# Altium footprint library 通讯系列IC.PcbLib: 17 footprints (part 1 of 2)
Each footprint in its own frame and in the unit in brackets; x right, y up, seen from the top. Pads: shape width x height; smd on the part's side, far side on the other; paste and mask are expansions set on the pad; w line width, h text height; cw(c..) or ccw(c..) is an arc to the next point about the centre after c.
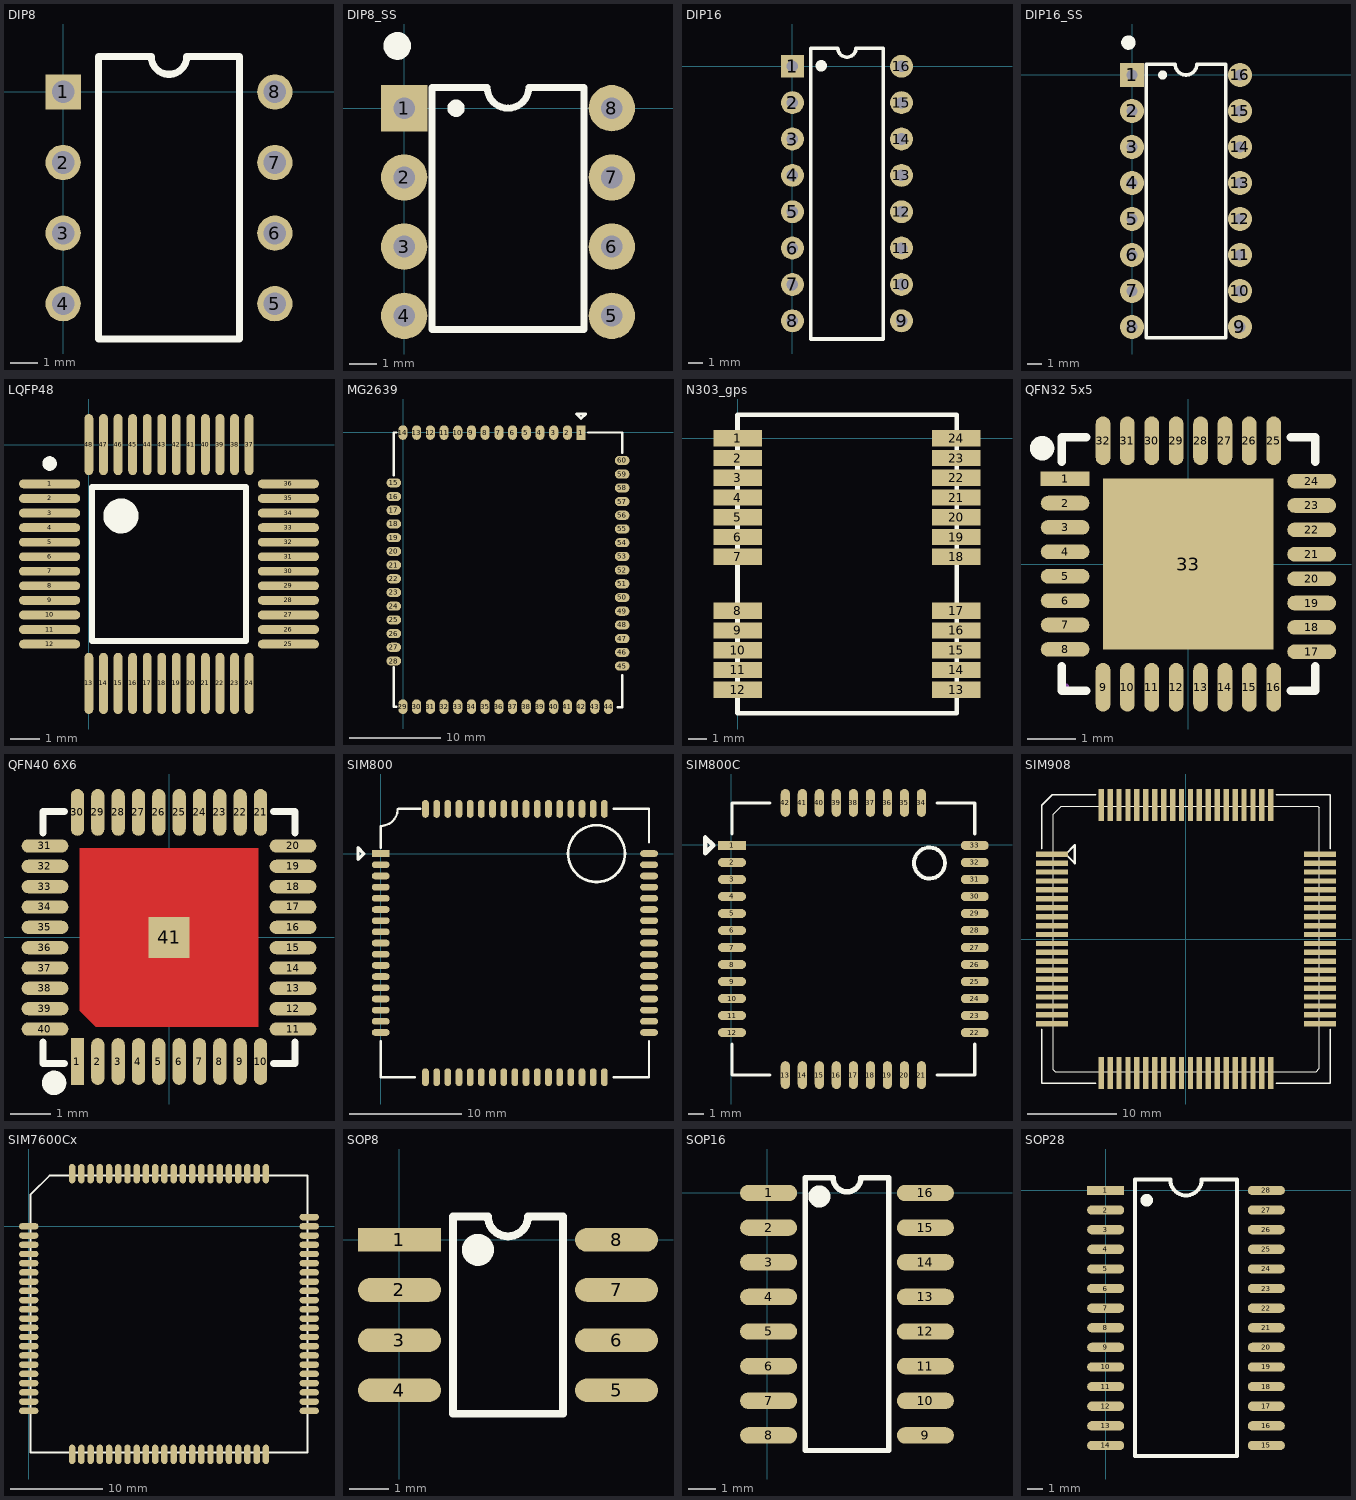
[diagram p0: the footprints below, top view; thin cyan lines are the x and y axes]

## DIP8 [mil]
pads (8):
  rect 50x50 hole 32: 1(0,0)
  round 50 hole 32: 2(0,-100) 3(0,-200) 4(0,-300) 5(300,-300) 6(300,-200) 7(300,-100) 8(300,0)
Top Overlay:
  lines w10: 50,-350 250,-350 250,50 175,50 cw(c150,50) 125,50 50,50 50,-350
3D body "DIP8.STEP": height 200, standoff -137.8, extent -4.92,-359.96 304.92,69.96

## DIP8_SS [mm] "DIP8-SMD Socket"
pads (8):
  rect 1.7x1.7 hole 0.8: 1(0,0)
  round 1.7 hole 0.8: 2(0,-2.54) 3(0,-5.08) 4(0,-7.62) 5(7.62,-7.62) 6(7.62,-5.08) 7(7.62,-2.54) 8(7.62,0)
Top Overlay:
  circle w0.508: c-0.254,2.286 r0.254
  circle w0.381: c1.905,0 r0.127
  lines w0.254: 1.016,-8.128 6.604,-8.128 6.604,0.762 4.572,0.762 cw(c3.81,0.762) 3.81,0 cw(c3.81,0.762) 3.048,0.762 1.016,0.762 1.016,-8.128
3D body "DIP-MH8-300.STEP": height 4.95, standoff -2.95, extent -1.19,-9 8.81,1.38
3D body "DIP8-300.STEP": height 7.7, standoff 0, extent -0.115,-8.51 7.735,0.89

## DIP16 [mm]
pads (16):
  rect 1.6x1.6 hole 0.813: 1(0,0)
  round 1.6 hole 0.813: 2(0,-2.54) 3(0,-5.08) 4(0,-7.62) 5(0,-10.16) 6(0,-12.7) 7(0,-15.24) 8(0,-17.78) 9(7.627,-17.78) 10(7.62,-15.24) 11(7.62,-12.7) 12(7.62,-10.16) 13(7.62,-7.62) 14(7.62,-5.08) 15(7.62,-2.54) 16(7.62,0)
Top Overlay:
  circle w0.5: c2.014,0.035 r0.15
  lines w0.254: 1.27,-19.05 1.27,1.27 3.175,1.27 ccw(c3.81,1.27) 4.445,1.27 6.35,1.27 6.35,-19.05 1.27,-19.05
3D body "DIP16.STEP": height 5.1, standoff -3.3, extent -0.119,-18.763 7.751,1.237

## DIP16_SS [mm] "DIP16-SMD Socket"
pads (16):
  rect 1.7x1.7 hole 0.8: 1(0,0)
  round 1.7 hole 0.8: 2(0,-2.54) 3(0,-5.08) 4(0,-7.62) 5(0,-10.16) 6(0,-12.7) 7(0,-15.24) 8(0,-17.78) 9(7.62,-17.78) 10(7.62,-15.24) 11(7.62,-12.7) 12(7.62,-10.16) 13(7.62,-7.62) 14(7.62,-5.08) 15(7.62,-2.54) 16(7.62,0)
Top Overlay:
  circle w0.508: c-0.254,2.286 r0.254
  circle w0.381: c2.159,0 r0.127
  lines w0.254: 1.016,-18.542 6.604,-18.542 6.604,0.762 4.572,0.762 cw(c3.81,0.762) 3.81,0 cw(c3.81,0.762) 3.048,0.762 1.016,0.762 1.016,-18.542
3D body "DIP16-300.STEP": height 7.5, standoff -0.1, extent -0.21,-18.54 7.83,0.76
3D body "DIP-MH16-300.STEP": height 5.25, standoff -2.95, extent -1.171,-19.14 8.81,1.36

## LQFP48 [mm]
pads (48):
  oval 2.1x0.3 smd: 1(-1.35,-1.35) 2(-1.35,-1.85) 3(-1.35,-2.35) 4(-1.35,-2.85) 5(-1.35,-3.35) 6(-1.35,-3.85) 7(-1.35,-4.35) 8(-1.35,-4.85) 9(-1.35,-5.35) 10(-1.35,-5.85) 11(-1.35,-6.35) 12(-1.35,-6.85) 25(6.85,-6.85) 26(6.85,-6.35) 27(6.85,-5.85) 28(6.85,-5.35) 29(6.85,-4.85) 30(6.85,-4.35) 31(6.85,-3.85) 32(6.85,-3.35) 33(6.85,-2.85) 34(6.85,-2.35) 35(6.85,-1.85) 36(6.85,-1.35)
  oval 0.3x2.1 smd: 13(0,-8.2) 14(0.5,-8.2) 15(1,-8.2) 16(1.5,-8.2) 17(2,-8.2) 18(2.5,-8.2) 19(3,-8.2) 20(3.5,-8.2) 21(4,-8.2) 22(4.5,-8.2) 23(5,-8.2) 24(5.5,-8.2) 37(5.5,0) 38(5,0) 39(4.5,0) 40(4,0) 41(3.5,0) 42(3,0) 43(2.5,0) 44(2,0) 45(1.5,0) 46(1,0) 47(0.5,0) 48(0,0)
Top Overlay:
  circle w0.6: c1.1,-2.45 r0.3
  circle w0.25: c-1.35,-0.65 r0.125
  lines w0.203: 0.1,-6.75 5.4,-6.75 5.4,-1.45 0.1,-1.45 0.1,-6.75
3D body "LQFP48.STEP": height 1.5, standoff 0, extent -1.757,-8.589 7.243,0.411

## MG2639 [mm]
pads (60):
  rect 1x1.6 smd: 1(19.488,-0.01)
  oval 1x1.6 smd: 2(17.988,-0.01) 3(16.488,-0.01) 4(14.988,-0.01) 5(13.488,-0.01) 6(11.988,-0.01) 7(10.488,-0.01) 8(8.988,-0.01) 9(7.488,-0.01) 10(5.988,-0.01) 11(4.488,-0.01) 12(2.988,-0.01) 13(1.488,-0.01) 14(-0.012,-0.01) 29(-0.012,-30.01) 30(1.488,-30.01) 31(2.988,-30.01) 32(4.488,-30.01) 33(5.988,-30.01) 34(7.488,-30.01) 35(8.988,-30.01) 36(10.488,-30.01) 37(11.988,-30.01) 38(13.488,-30.01) 39(14.988,-30.01) 40(16.488,-30.01) 41(17.988,-30.01) 42(19.488,-30.01) 43(20.988,-30.01) 44(22.488,-30.01)
  oval 1.6x1 smd: 15(-1.012,-5.51) 16(-1.012,-7.01) 17(-1.012,-8.51) 18(-1.012,-10.01) 19(-1.012,-11.51) 20(-1.012,-13.01) 21(-1.012,-14.51) 22(-1.012,-16.01) 23(-1.012,-17.51) 24(-1.012,-19.01) 25(-1.012,-20.51) 26(-1.012,-22.01) 27(-1.012,-23.51) 28(-1.012,-25.01) 45(23.988,-25.56) 46(23.988,-24.06) 47(23.988,-22.56) 48(23.988,-21.06) 49(23.988,-19.56) 50(23.988,-18.06) 51(23.988,-16.56) 52(23.988,-15.06) 53(23.988,-13.56) 54(23.988,-12.06) 55(23.988,-10.56) 56(23.988,-9.06) 57(23.988,-7.56) 58(23.988,-6.06) 59(23.988,-4.56) 60(23.988,-3.06)
Top Overlay:
  lines w0.254: -1.012,-25.667 -1.012,-30.01 -0.723,-30.01 ; -1.012,-4.684 -1.012,-0.01 -0.707,-0.01 ; 20.252,-0.01 23.988,-0.01 ; 23.488,-30.06 23.988,-30.06 23.988,-26.56 ; 23.988,-2.218 23.988,-0.06
  lines w0.305: 18.98,2.022 19.996,2.022 19.488,1.514 18.98,2.022

## N303_gps [mm]
pads (24):
  rect 2.7x0.9 smd: 1(0,0) 2(0,-1.1) 3(0,-2.2) 4(0,-3.3) 5(0,-4.4) 6(0,-5.5) 7(0,-6.6) 8(0,-9.6) 9(0,-10.7) 10(0,-11.8) 11(0,-12.9) 12(0,-14) 13(12.192,-14.002) 14(12.192,-12.902) 15(12.192,-11.802) 16(12.192,-10.702) 17(12.192,-9.602) 18(12.192,-6.602) 19(12.192,-5.502) 20(12.192,-4.402) 21(12.192,-3.302) 22(12.192,-2.202) 23(12.192,-1.102) 24(12.192,-0.002)
Top Overlay:
  lines w0.254: 0,-15.3 12.2,-15.3 12.2,1.3 0,1.3 0,-15.3

## QFN32 5x5 [mm]
pads (33):
  rect 1x0.3 smd: 1(-2.528,1.751)
  oval 1x0.3 smd: 2(-2.528,1.25) 3(-2.528,0.75) 4(-2.528,0.25) 5(-2.528,-0.25) 6(-2.528,-0.75) 7(-2.528,-1.25) 8(-2.528,-1.75) 17(2.528,-1.8) 18(2.528,-1.3) 19(2.528,-0.8) 20(2.528,-0.3) 21(2.528,0.2) 22(2.528,0.7) 23(2.528,1.2) 24(2.528,1.7)
  oval 0.3x1 smd: 9(-1.75,-2.528) 10(-1.25,-2.528) 11(-0.75,-2.528) 12(-0.25,-2.528) 13(0.25,-2.528) 14(0.75,-2.528) 15(1.25,-2.528) 16(1.75,-2.528) 25(1.75,2.528) 26(1.25,2.528) 27(0.75,2.528) 28(0.25,2.528) 29(-0.25,2.528) 30(-0.75,2.528) 31(-1.25,2.528) 32(-1.75,2.528)
  rect 3.5x3.5 smd mask+0.102: 33(0,0)
Top Overlay:
  circle w0.25: c-3,2.375 r0.125
  lines w0.178: -2.6,-2.1 -2.6,-2.6 -2.1,-2.6 ; -2.6,2.1 -2.6,2.6 -2.1,2.6 ; 2.1,-2.6 2.6,-2.6 2.6,-2.1 ; 2.1,2.6 2.6,2.6 2.6,2.1
Mechanical 13:
  lines w0.1: -2.501,-2.501 -2.501,-2.5
3D body "QFN32 5x5_M.STEP": height 0.93, standoff 0, extent -2.462,-2.501 2.54,2.501

## QFN40 6X6 [mm]
pads (41):
  rect 0.325x1.15 smd mask+0.051: 1(-2.25,-3.051)
  oval 0.325x1.15 smd mask+0.051: 2(-1.75,-3.051) 3(-1.25,-3.051) 4(-0.75,-3.051) 5(-0.25,-3.051) 6(0.25,-3.051) 7(0.75,-3.051) 8(1.25,-3.051) 9(1.75,-3.051) 10(2.25,-3.051) 21(2.25,3.076) 22(1.75,3.076) 23(1.25,3.076) 24(0.75,3.076) 25(0.25,3.076) 26(-0.25,3.076) 27(-0.75,3.076) 28(-1.25,3.076) 29(-1.75,3.076) 30(-2.25,3.076)
  oval 1.15x0.325 smd mask+0.051: 11(3.051,-2.25) 12(3.051,-1.75) 13(3.051,-1.25) 14(3.051,-0.75) 15(3.051,-0.25) 16(3.051,0.25) 17(3.051,0.75) 18(3.051,1.25) 19(3.051,1.75) 20(3.051,2.25) 31(-3.051,2.25) 32(-3.051,1.75) 33(-3.051,1.25) 34(-3.051,0.75) 35(-3.051,0.25) 36(-3.051,-0.25) 37(-3.051,-0.75) 38(-3.051,-1.25) 39(-3.051,-1.75) 40(-3.051,-2.25)
  rect 1x1 smd mask+0.051: 41(0,0)
Top Layer:
  region: -2.2,2.2 2.2,2.2 2.2,-2.2 -1.8,-2.2 -2.2,-1.8
Top Overlay:
  circle w0.3: c-2.825,-3.575 r0.15
  lines w0.178: -3.1,-2.575 -3.1,-3.1 -2.575,-3.1 ; -3.1,2.575 -3.1,3.1 -2.575,3.1 ; 2.575,-3.1 3.1,-3.1 3.1,-2.575 ; 2.575,3.1 3.1,3.1 3.1,2.575
Mechanical 15:
  circle w0.05: c0,0 r0.35
  lines w0.05: -0.5,0 0.5,0 ; 0,-0.5 0,0.5
3D body "QFN40-6X6.STEP": height 0.9, standoff -0.07, extent -3.01,-3.01 3.01,3.01

## SIM800 [mm]
pads (68):
  rect 1.6x0.6 smd: 1(0,0)
  oval 1.6x0.6 smd: 2(0,-1) 3(0,-2) 4(0,-3) 5(0,-4) 6(0,-5) 7(0,-6) 8(0,-7) 9(0,-8) 10(0,-9) 11(0,-10) 12(0,-11) 13(0,-12) 14(0,-13) 15(0,-14) 16(0,-15) 17(0,-16) 35(24,-16) 36(24,-15) 37(24,-14) 38(24,-13) 39(24,-12) 40(24,-11) 41(24,-10) 42(24,-9) 43(24,-8) 44(24,-7) 45(24,-6) 46(24,-5) 47(24,-4) 48(24,-3) 49(24,-2) 50(24,-1) 51(24,0)
  oval 0.6x1.6 smd: 18(4,-20) 19(5,-20) 20(6,-20) 21(7,-20) 22(8,-20) 23(9,-20) 24(10,-20) 25(11,-20) 26(12,-20) 27(13,-20) 28(14,-20) 29(15,-20) 30(16,-20) 31(17,-20) 32(18,-20) 33(19,-20) 34(20,-20) 52(20,4) 53(19,4) 54(18,4) 55(17,4) 56(16,4) 57(15,4) 58(14,4) 59(13,4) 60(12,4) 61(11,4) 62(10,4) 63(9,4) 64(8,4) 65(7,4) 66(6,4) 67(5,4) 68(4,4)
Top Overlay:
  circle w0.254: c19.304,0 r2.54
  lines w0.2: 0,2.476 ccw(c0,4) 1.524,4
  lines w0.203: 0,-16.764 0,-20 3.048,-20 ; 0,0.508 0,2.476 ; 1.6,4 3.556,4 ; 20.828,-20 24,-20 24,-16.764 ; 20.828,4 24,4 24,1.016
  lines w0.305: -2.032,-0.508 -1.524,0 -2.032,0.508 -2.032,-0.508
3D body "GSM_SIM900.STEP": height 3, standoff 0, extent 0,-20.063 24,3.937

## SIM800C [mm]
pads (42):
  rect 1.8x0.6 smd: 1(0.057,-0.032)
  oval 1.8x0.6 smd: 2(0.057,-1.132) 3(0.057,-2.232) 4(0.057,-3.332) 5(0.057,-4.432) 6(0.057,-5.532) 7(0.057,-6.632) 8(0.057,-7.732) 9(0.057,-8.832) 10(0.057,-9.932) 11(0.057,-11.032) 12(0.057,-12.132) 22(15.757,-12.132) 23(15.757,-11.032) 24(15.757,-9.932) 25(15.757,-8.832) 26(15.757,-7.732) 27(15.757,-6.632) 28(15.757,-5.532) 29(15.757,-4.432) 30(15.757,-3.332) 31(15.757,-2.232) 32(15.757,-1.132) 33(15.757,-0.032)
  oval 0.6x1.8 smd: 13(3.507,-14.882) 14(4.607,-14.882) 15(5.707,-14.882) 16(6.807,-14.882) 17(7.907,-14.882) 18(9.007,-14.882) 19(10.107,-14.882) 20(11.207,-14.882) 21(12.307,-14.882) 34(12.307,2.718) 35(11.207,2.718) 36(10.107,2.718) 37(9.007,2.718) 38(7.907,2.718) 39(6.807,2.718) 40(5.707,2.718) 41(4.607,2.718) 42(3.507,2.718)
Top Overlay:
  circle w0.254: c12.831,-1.168 r1
  lines w0.203: 0.057,-12.882 0.057,-14.882 2.507,-14.882 ; 0.057,0.718 0.057,2.7 ; 0.075,2.718 2.507,2.718 ; 13.307,-14.882 15.738,-14.882 ; 13.307,2.718 15.757,2.718 15.757,0.718 ; 15.757,-14.863 15.757,-12.882
  lines w0.305: -1.671,-0.54 -1.671,0.476 -1.163,-0.032 -1.671,-0.54
3D body "SIM800C(1).STEP": height 2.3, standoff -0.01, extent 0.057,-14.882 15.757,2.718

## SIM908 [mm]
height 3.2
pads (80):
  rect 3.6x0.6 smd: 1(-15,9.5) 2(-15,8.5) 3(-15,7.5) 4(-15,6.5) 5(-15,5.5) 6(-15,4.5) 7(-15,3.5) 8(-15,2.5) 9(-15,1.5) 10(-15,0.5) 11(-15,-0.5) 12(-15,-1.5) 13(-15,-2.5) 14(-15,-3.5) 15(-15,-4.5) 16(-15,-5.5) 17(-15,-6.5) 18(-15,-7.5) 19(-15,-8.5) 20(-15,-9.5) 41(15,-9.5) 42(15,-8.5) 43(15,-7.5) 44(15,-6.5) 45(15,-5.5) 46(15,-4.5) 47(15,-3.5) 48(15,-2.5) 49(15,-1.5) 50(15,-0.5) 51(15,0.5) 52(15,1.5) 53(15,2.5) 54(15,3.5) 55(15,4.5) 56(15,5.5) 57(15,6.5) 58(15,7.5) 59(15,8.5) 60(15,9.5)
  rect 0.6x3.6 smd: 21(-9.5,-15) 22(-8.5,-15) 23(-7.5,-15) 24(-6.5,-15) 25(-5.5,-15) 26(-4.5,-15) 27(-3.5,-15) 28(-2.5,-15) 29(-1.5,-15) 30(-0.5,-15) 31(0.5,-15) 32(1.5,-15) 33(2.5,-15) 34(3.5,-15) 35(4.5,-15) 36(5.5,-15) 37(6.5,-15) 38(7.5,-15) 39(8.5,-15) 40(9.5,-15) 61(9.5,15) 62(8.5,15) 63(7.5,15) 64(6.5,15) 65(5.5,15) 66(4.5,15) 67(3.5,15) 68(2.5,15) 69(1.5,15) 70(0.5,15) 71(-0.5,15) 72(-1.5,15) 73(-2.5,15) 74(-3.5,15) 75(-4.5,15) 76(-5.5,15) 77(-6.5,15) 78(-7.5,15) 79(-8.5,15) 80(-9.5,15)
Top Overlay:
  lines w0.127: -14.848,-14.655 -14.848,10.084 -14.848,13.996 -14.136,14.707 -13.959,14.885 13.499,14.885 14.743,14.885 14.947,14.682 14.947,9.348 14.947,-14.478 14.566,-14.859 7.301,-14.859 -14.644,-14.859 -14.848,-14.655
  lines w0.2: -16.15,-10.1 -16.15,-16.15 -10.1,-16.15 ; -16.15,10.1 -16.15,15 -15,16.15 -10.1,16.15 ; 10.1,-16.15 16.15,-16.15 16.15,-10.1 ; 10.1,16.15 16.15,16.15 16.15,10.1
  lines w0.254: -13.476,9.5 -12.46,8.484 -12.46,10.516 -13.476,9.5
3D body "User Library-SIM908.STEP": height 3.19, standoff -0.01, extent -15,-15 15,15

## SIM7600Cx [mm]
pads (87):
  oval 2.1x0.7 smd: 1(0,0) 2(0,-1) 3(0,-2) 4(0,-3) 5(0,-4) 6(0,-5) 7(0,-6) 8(0,-7) 9(0,-8) 10(0,-9) 11(0,-10) 12(0,-11) 13(0,-12) 14(0,-13) 15(0,-14) 16(0,-15) 17(0,-16) 18(0,-17) 19(0,-18) 20(0,-19) 41(30.406,-19) 42(30.406,-18) 43(30.406,-17) 44(30.406,-16) 45(30.406,-15) 46(30.406,-14) 47(30.406,-13) 48(30.406,-12) 49(30.406,-11) 50(30.406,-10) 51(30.406,-9) 52(30.406,-8) 53(30.406,-7) 54(30.406,-6) 55(30.406,-5) 56(30.406,-4) 57(30.406,-3) 58(30.406,-2) 59(30.406,-1) 60(30.406,0) 81(0,-20) 82(30.406,-20) 85(30.406,1)
  oval 0.7x2.1 smd: 21(5.703,-24.714) 22(6.703,-24.714) 23(7.703,-24.714) 24(8.703,-24.714) 25(9.703,-24.714) 26(10.703,-24.714) 27(11.703,-24.714) 28(12.703,-24.714) 29(13.703,-24.714) 30(14.703,-24.714) 31(15.703,-24.714) 32(16.703,-24.714) 33(17.703,-24.714) 34(18.703,-24.714) 35(19.703,-24.714) 36(20.703,-24.714) 37(21.703,-24.714) 38(22.703,-24.714) 39(23.703,-24.714) 40(24.703,-24.714) 61(24.703,5.703) 62(23.703,5.703) 63(22.703,5.703) 64(21.703,5.703) 65(20.703,5.703) 66(19.703,5.703) 67(18.703,5.703) 68(17.703,5.703) 69(16.703,5.703) 70(15.703,5.703) 71(14.703,5.703) 72(13.703,5.703) 73(12.703,5.703) 74(11.703,5.703) 75(10.703,5.703) 76(9.703,5.703) 77(8.703,5.703) 78(7.703,5.703) 79(6.703,5.703) 80(5.703,5.703) 83(25.703,-24.714) 84(4.703,-24.714) 86(4.703,5.703) 87(25.703,5.703)
Top Overlay:
  lines w0.203: 0.203,-24.5 30.203,-24.5 30.203,5.5 2.252,5.5 0.203,3.451 0.203,-24.5

## SOP8 [mm]
pads (8):
  rect 2.1x0.6 smd: 1(0,0)
  oval 2.1x0.6 smd: 2(0,-1.27) 3(0,-2.54) 4(0,-3.81) 5(5.5,-3.81) 6(5.5,-2.54) 7(5.5,-1.27) 8(5.5,0)
Top Overlay:
  circle w0.5: c1.988,-0.254 r0.155
  lines w0.2: 1.353,0.595 1.353,-4.405 4.147,-4.405 4.147,0.595
  lines w0.203: 1.353,0.595 2.242,0.595 ccw(c2.75,0.595) 2.75,0.087 ccw(c2.75,0.595) 3.258,0.595 4.147,0.595
3D body "SOP8.STEP": height 1.9, standoff 0, extent -0.361,-4.369 5.644,0.631

## SOP16 [mm]
pads (16):
  oval 2.1x0.6 smd: 1(0.046,0) 2(0.046,-1.27) 3(0.046,-2.54) 4(0.046,-3.81) 5(0.046,-5.08) 6(0.046,-6.35) 7(0.046,-7.62) 8(0.046,-8.89) 9(5.796,-8.89) 10(5.796,-7.62) 11(5.796,-6.35) 12(5.796,-5.08) 13(5.796,-3.81) 14(5.796,-2.54) 15(5.796,-1.27) 16(5.796,0)
Top Overlay:
  circle w0.5: c1.905,-0.127 r0.155
  lines w0.2: 1.397,0.555 1.397,-9.445 4.445,-9.445 4.445,0.555
  lines w0.203: 1.397,0.555 2.413,0.555 ccw(c2.921,0.555) 2.921,0.047 ccw(c2.921,0.555) 3.429,0.555 4.445,0.555
3D body "SOP16.STEP": height 1.9, standoff 0, extent -0.152,-9.47 5.853,0.53

## SOP28 [mm]
pads (28):
  rect 2.4x0.6 smd: 1(0.007,0)
  oval 2.4x0.6 smd: 2(0.007,-1.27) 3(0.007,-2.54) 4(0.007,-3.81) 5(0.007,-5.08) 6(0.007,-6.35) 7(0.007,-7.62) 8(0.007,-8.89) 9(0.007,-10.16) 10(0.007,-11.43) 11(0.007,-12.7) 12(0.007,-13.97) 13(0.007,-15.24) 14(0.007,-16.51) 15(10.407,-16.51) 16(10.407,-15.24) 17(10.407,-13.97) 18(10.407,-12.7) 19(10.407,-11.43) 20(10.407,-10.16) 21(10.407,-8.89) 22(10.407,-7.62) 23(10.407,-6.35) 24(10.407,-5.08) 25(10.407,-3.81) 26(10.407,-2.54) 27(10.407,-1.27) 28(10.407,0)
Top Overlay:
  circle w0.5: c2.667,-0.635 r0.155
  lines w0.254: 1.905,-17.205 8.509,-17.205 8.509,0.695 6.223,0.695 cw(c5.207,0.695) 4.191,0.695 1.905,0.695 1.905,-17.205
3D body "SOP28.STEP": height 2.7, standoff 0, extent 0.054,-17.265 10.36,0.635